# EAGLE library part MK20DX128VLF5 (library SamacSys_Parts)
MCU, Kinetis, MK20DX128VLF5, LQFP48 Freescale MK20DX128VLF5, 32bit ARM Cortex M4 MCU, 50MHz, 160 kB Flash, 48-Pin LQFP Source: Datasheet <http://www.nxp.com/docs/en/data-sheet/K20P48M50SF0.pdf>
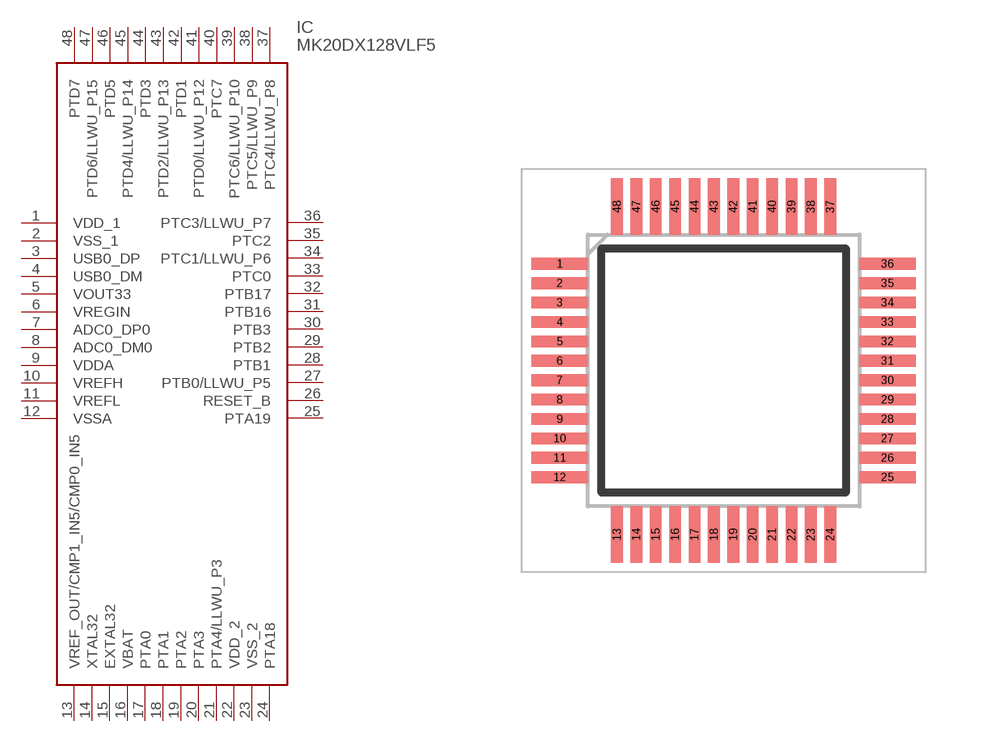
[diagram p253: symbol with the pads of QFP50P900X900X160-48N; footprint QFP50P900X900X160-48N]

Designator prefix IC

## MK20DX128VLF5 (ARROW_PART_NUMBER: MK20DX128VLF5; ARROW_PRICE-STOCK: https://www.arrow.com/en/products/mk20dx128vlf5/nxp-semiconductors; DESCRIPTION: MCU, Kinetis, MK20DX128VLF5, LQFP48 Freescale MK20DX128VLF5, 32bit ARM Cortex M4 MCU, 50MHz, 160 kB Flash, 48-Pin LQFP; HEIGHT: 1.6mm; MANUFACTURER_NAME: NXP; MANUFACTURER_PART_NUMBER: MK20DX128VLF5; MOUSER_PART_NUMBER: 841-MK20DX128VLF5; MOUSER_PRICE-STOCK: https://www.mouser.co.uk/ProductDetail/NXP-Semiconductors/MK20DX128VLF5?qs=b%252B6ZnhyoAL%2FD%2FmH50Ld8ng%3D%3D)  [QFP50P900X900X160-48N]
1  VDD_1  pwr
2  VSS_1  pwr
3  USB0_DP
4  USB0_DM
5  VOUT33  out
6  VREGIN  in
7  ADC0_DP0
8  ADC0_DM0
9  VDDA  pwr
10  VREFH  in
11  VREFL  in
12  VSSA  pwr
13  VREF_OUT/CMP1_IN5/CMP0_IN5  out
14  XTAL32
15  EXTAL32
16  VBAT
17  PTA0
18  PTA1
19  PTA2
20  PTA3
21  PTA4/LLWU_P3
22  VDD_2  pwr
23  VSS_2  pwr
24  PTA18
25  PTA19
26  RESET_B
27  PTB0/LLWU_P5
28  PTB1
29  PTB2
30  PTB3
31  PTB16
32  PTB17
33  PTC0
34  PTC1/LLWU_P6
35  PTC2
36  PTC3/LLWU_P7
37  PTC4/LLWU_P8
38  PTC5/LLWU_P9
39  PTC6/LLWU_P10
40  PTC7
41  PTD0/LLWU_P12
42  PTD1
43  PTD2/LLWU_P13
44  PTD3
45  PTD4/LLWU_P14
46  PTD5
47  PTD6/LLWU_P15
48  PTD7

## Footprint QFP50P900X900X160-48N (pad centres in mm)
98ASH00962A
smd 1.45 x 0.3: 1 -4.225,2.75; 2 -4.225,2.25; 3 -4.225,1.75; 4 -4.225,1.25; 5 -4.225,0.75; 6 -4.225,0.25; 7 -4.225,-0.25; 8 -4.225,-0.75; 9 -4.225,-1.25; 10 -4.225,-1.75; 11 -4.225,-2.25; 12 -4.225,-2.75; 25 4.225,-2.75; 26 4.225,-2.25; 27 4.225,-1.75; 28 4.225,-1.25; 29 4.225,-0.75; 30 4.225,-0.25; 31 4.225,0.25; 32 4.225,0.75; 33 4.225,1.25; 34 4.225,1.75; 35 4.225,2.25; 36 4.225,2.75
smd 0.3 x 1.45: 13 -2.75,-4.225; 14 -2.25,-4.225; 15 -1.75,-4.225; 16 -1.25,-4.225; 17 -0.75,-4.225; 18 -0.25,-4.225; 19 0.25,-4.225; 20 0.75,-4.225; 21 1.25,-4.225; 22 1.75,-4.225; 23 2.25,-4.225; 24 2.75,-4.225; 37 2.75,4.225; 38 2.25,4.225; 39 1.75,4.225; 40 1.25,4.225; 41 0.75,4.225; 42 0.25,4.225; 43 -0.25,4.225; 44 -0.75,4.225; 45 -1.25,4.225; 46 -1.75,4.225; 47 -2.25,4.225; 48 -2.75,4.225